# EAGLE library part LM393 (library ICs)
Wide supply, low power, RR in, open collector voltage comparator.
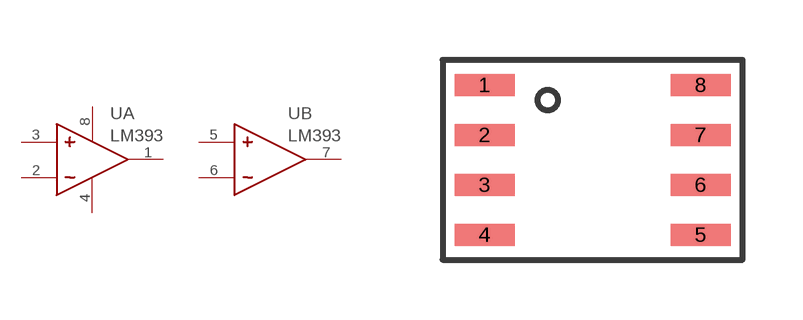
[diagram p6: symbol with the pads of SO8; footprint SO8]

Designator prefix U; gates A=COMPARATOR B=COMPARATORSANSSUPPLIES

## LM393DT (FARNELL: 2382619)  [SO8]
1  A:VOUT
2  A:-
3  A:+
4  A:GND
5  B:+
6  B:-
7  B:VOUT
8  A:VCC

## Footprint SO8 (pad centres in mm)
smd 1.5 x 0.55: 1 -2.7,1.875; 2 -2.7,0.625; 3 -2.7,-0.625; 4 -2.7,-1.875; 5 2.7,-1.875; 6 2.7,-0.625; 7 2.7,0.625; 8 2.7,1.875